# Altium schematic symbol library SparkFun-LED.SCHLIB: 80 symbols (part 2 of 2)
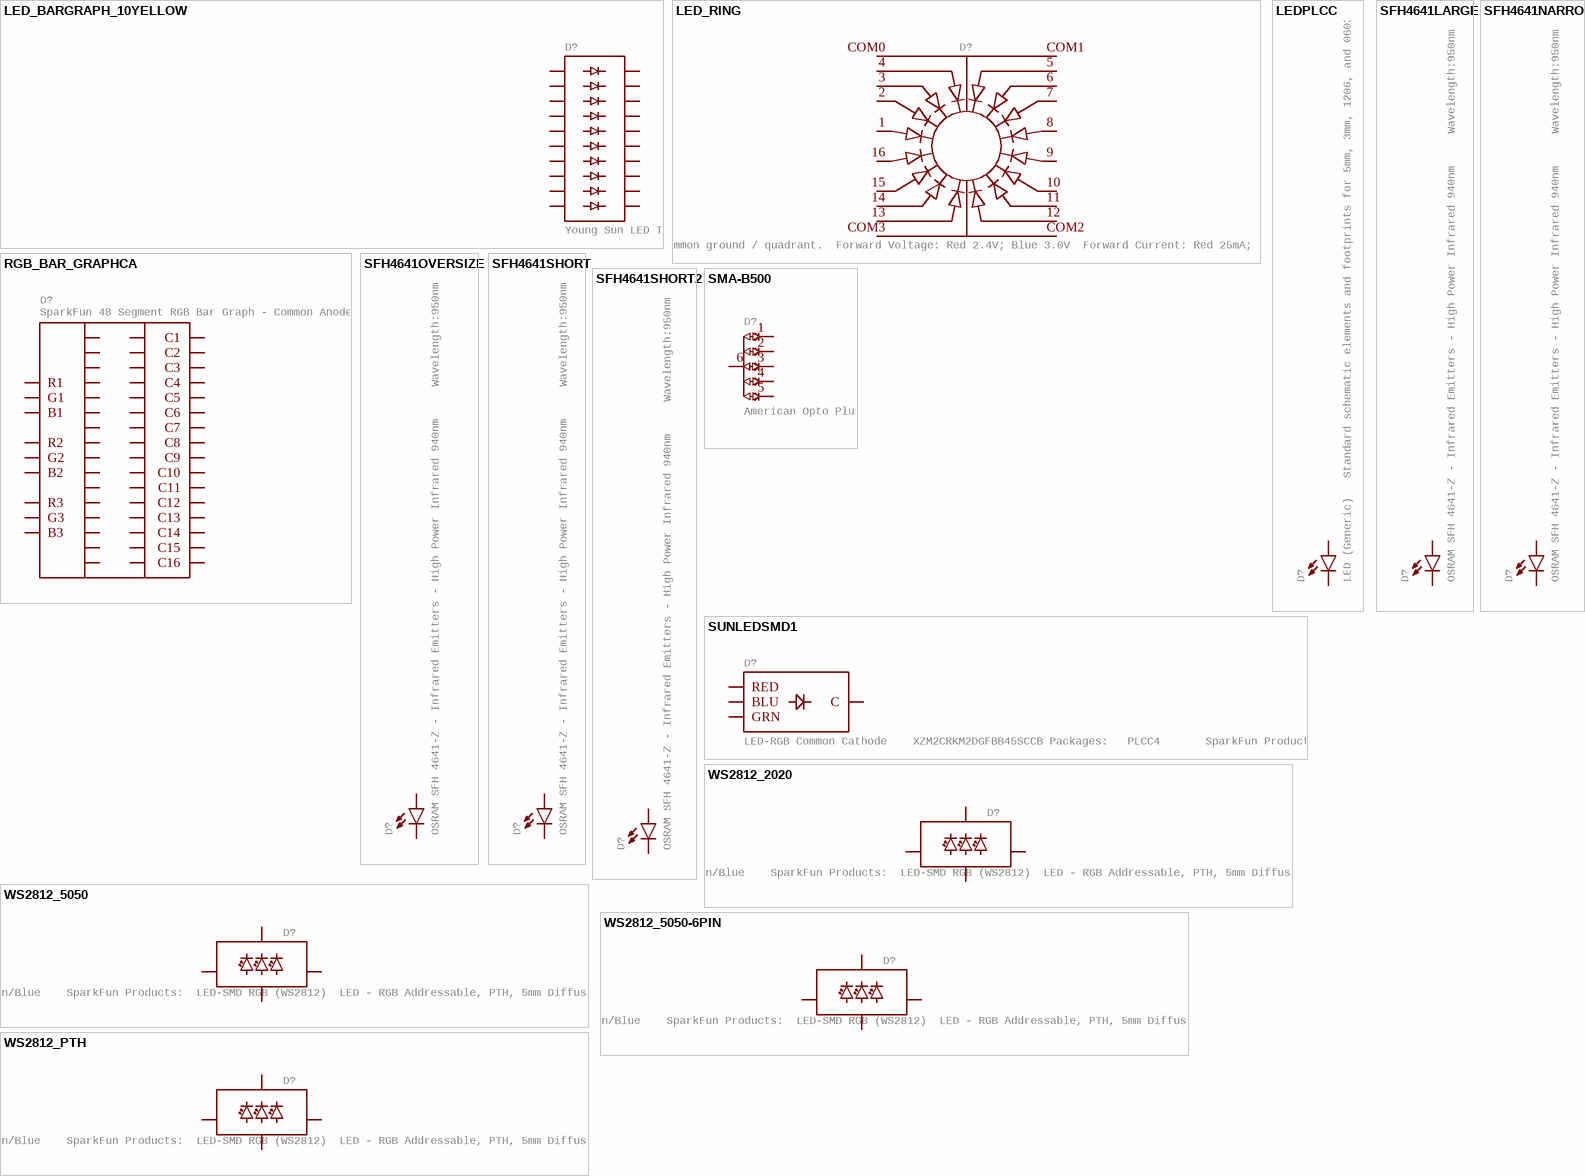
[diagram p5: symbols LED_BARGRAPH_10YELLOW to WS2812_PTH]

## WS2812_2020
designator D?, comment Addressable RGB LED - 1 Wire Common names: WS2812, SK6812, Neopixel, APA-106, etc. SMD LED with built-in controller IC.  Color: Red/Green/Blue    SparkFun Products:  LED-SMD RGB (WS2812)  LED - RGB Addressable, PTH, 5mm Diffused (5 Pack)  LED - RGB Addressable, PTH, 5mm Clear (5 Pack)  Blynk Board - ESP8266       Datasheet referenced for footprint: WS2812B-PTH
GateName_1: G$1; SymbolName_1: LED-RGB-ADDRESSABLE-1WIRE; DeviceName: _2020; PROD_ID: DIO-15591; LibraryName: SparkFun-LED; DeviceSetName: WS2812; Package: WS2812-2020
footprint WS2812-2020
pins: DI (io), DO (io), GND (io), VCC (io)

## WS2812_5050
designator D?, comment Addressable RGB LED - 1 Wire Common names: WS2812, SK6812, Neopixel, APA-106, etc. SMD LED with built-in controller IC.  Color: Red/Green/Blue    SparkFun Products:  LED-SMD RGB (WS2812)  LED - RGB Addressable, PTH, 5mm Diffused (5 Pack)  LED - RGB Addressable, PTH, 5mm Clear (5 Pack)  Blynk Board - ESP8266       Datasheet referenced for footprint: WS2812B-PTH
GateName_1: G$1; SymbolName_1: LED-RGB-ADDRESSABLE-1WIRE; DeviceName: _5050; PROD_ID: DIO-12503; LibraryName: SparkFun-LED; DeviceSetName: WS2812; Package: WS2812-5X5-4PIN
footprint WS2812-5X5-4PIN
pins: DI (io), DO (io), GND (io), VCC (io)

## WS2812_5050-6PIN
designator D?, comment Addressable RGB LED - 1 Wire Common names: WS2812, SK6812, Neopixel, APA-106, etc. SMD LED with built-in controller IC.  Color: Red/Green/Blue    SparkFun Products:  LED-SMD RGB (WS2812)  LED - RGB Addressable, PTH, 5mm Diffused (5 Pack)  LED - RGB Addressable, PTH, 5mm Clear (5 Pack)  Blynk Board - ESP8266       Datasheet referenced for footprint: WS2812B-PTH
GateName_1: G$1; SymbolName_1: LED-RGB-ADDRESSABLE-1WIRE; DeviceName: _5050-6PIN; PROD_ID: DIO-11598; LibraryName: SparkFun-LED; DeviceSetName: WS2812; Package: LED-TRICOLOR-5050-IC
footprint LED-TRICOLOR-5050-IC
pins: DI (io), DO (io), GND (io), VCC@3,5 VCC (io)

## WS2812_PTH
designator D?, comment Addressable RGB LED - 1 Wire Common names: WS2812, SK6812, Neopixel, APA-106, etc. SMD LED with built-in controller IC.  Color: Red/Green/Blue    SparkFun Products:  LED-SMD RGB (WS2812)  LED - RGB Addressable, PTH, 5mm Diffused (5 Pack)  LED - RGB Addressable, PTH, 5mm Clear (5 Pack)  Blynk Board - ESP8266       Datasheet referenced for footprint: WS2812B-PTH
GateName_1: G$1; SymbolName_1: LED-RGB-ADDRESSABLE-1WIRE; DeviceName: _PTH; LibraryName: SparkFun-LED; DeviceSetName: WS2812; Package: WS2812B-PTH-KIT
footprint WS2812B-PTH-KIT
pins: DI (io), DO (io), GND (io), VCC (io)